# Altium schematic symbol library Diodes.SchLib: 5 symbols
Pins are listed as number, name and electrical type; pins without a type are passive.

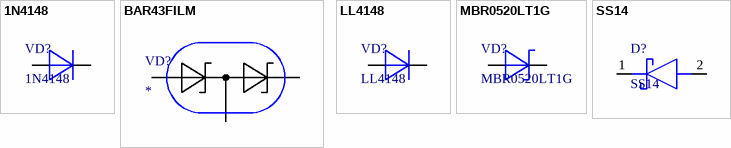
[diagram p0: symbols 1N4148 to SS14]

## 1N4148
designator VD?
Диод импульсный 150мА 100В; Manufacturer: ON Semiconductor
simulation model LL4148
footprint DO-35 (Diode, Axial; Body 3.8 x 1.9 mm (LxDia. max), Lead Dia. 0.53 mm (max))
footprint DO-35 VERTICAL
pins: 1 C, 2 A

## BAR43FILM
designator VD?
Двойной диод Шоттки, 0.1А, 30В; Manufacturer: ST microelectronics
footprint SOT-23_L (SOT23, 3-Leads, Body 2.9x1.3mm, Pitch 0.95mm, Lead Span 2.5mm, IPC High Density)
simulation model BAR43FILM
pins: 1 A2, 2 K1, 3 A1 K2

## LL4148
designator VD?
Диод импульсный 150мА 100В; Manufacturer: ON Semiconductor; ComponentLink1Description: Datasheet; ComponentLink1URL: https://static.chipdip.ru/lib/224/DOC000224442.pdf
simulation model LL4148
footprint SOD-80 Mini Melf (Mini Melf)
pins: 1 C, 2 A

## MBR0520LT1G
designator VD?
Диод Шоттки 0.5А 20В; Manufacturer: ON Semiconductor; ComponentLink1Description: Datasheet; ComponentLink1URL: https://static.chipdip.ru/lib/224/DOC000224442.pdf
simulation model MBR0520LT1G
footprint SOD-123 (small outline diode 1,7 ? 1,25 ? 0,95 мм)
pins: 1 C, 2 A

## SS14
designator D?
Диод Шотки 1 A, 40 В; Manufacturer_Name: ON Semiconductor; Geometry.Height: 2.7mm; Mouser Part Number: 512-SS14; Manufacturer_Part_Number: SS14; Datasheet Link: https://www.mouser.it/datasheet/2/308/SS14-1307164.pdf
footprint SMA (DO-214AC)
pins: 1 K, 2 A